# Altium schematic symbol library laihi.SchLib: 296 symbols (part 3 of 3)
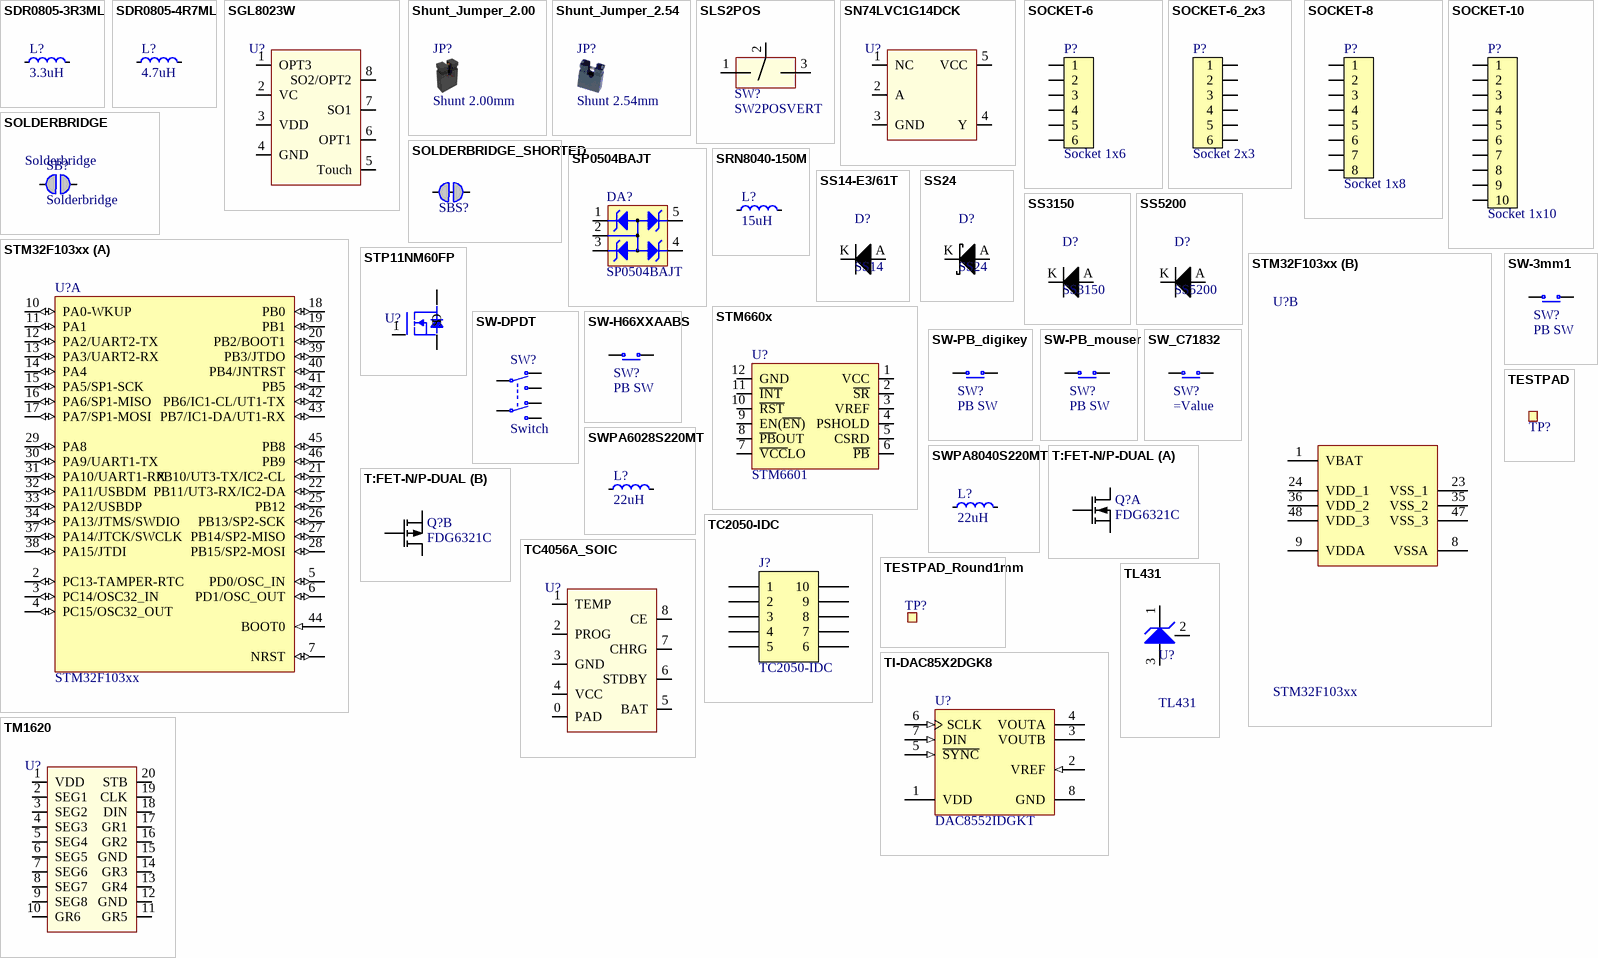
[diagram p9: symbols SDR0805-3R3ML to TM1620]

## T:FET-N/P-DUAL
designator Q?, comment FDG6321C
Fairchild, FDG6321C, Dual N & P Channel Digital FET; Artikkelnr Noca: 35029089; Part Number: FDG6321C; Manufacturer: Fairchild; Manufacturer No: FDG6321C; Datasheet: http://www.fairchildsemi.com/ds/FD/FDG6321C.pdf; Footprint: SC70-6; Pin Count: 6; Publisher: Nordic Semiconductor; Note: Dual N & P Channel Digital FET; Value: FDG6321C; Supplier_PN: FDG6321CDKR-ND
footprint SC70-6
part A pins: 1 S1, 2 G1, 6 D1
part B pins: 3 D2, 4 S2, 5 G2

## TC2050-IDC
designator J?  (no BOM)
CBL PLUG-OF-NAILS 10-PIN; Part Number: TC2050-IDC-NLFP; Manufacturer: Tag-Connect LLC; Artikkelnr Noca: N.A.; Manufacturer Part Number: TC2050-IDC-NLFP; Datasheet: http://www.tag-connect.com/Materials/TC2050-IDC%20Datasheet.pdf; LatestRevisionDate: 2012-11-21; Publisher: Nordic Semiconductor; Published: 2012-11-21; Value: TC2050-IDC; Supplier: Digi-Key; Supplier part number: TC2050-IDC-NL-ND; 2nd source Supplier: *; 2nd source part number: *; Pin Count: 10; Footprint Doc: TC2050-IDC-NLFP; Artikkelnr Simpro: N.A.
footprint TC2050-IDC-NLFP
pins: 1, 2, 3, 4, 5, 6, 7, 8, 9, 10

## TC4056A_SOIC
designator U?, comment TC4056A  (value not drawn)
1A 线性锂离子电池充电器; Manufacturer: FM; Manufacturer No: TC4056A; Note: TC4056A; Pins: 9; Supplier: LC; Supplier_PN: C84051; SuppliersPartNumber: C84051
footprint SOIC127P600X175_HS-9N (SOIC, 8-Leads, Body 4.90x3.90mm, Pitch 1.27mm, Thermal Pad 3.40x2.51mm, IPC Medium Density)
pins: 0 PAD, 1 TEMP, 2 PROG, 3 GND, 4 VCC, 5 BAT, 6 STDBY, 7 CHRG, 8 CE

## TESTPAD
designator TP?, comment TestPad  (value not drawn)  (no BOM)
Regular Plated, 1.0mm hole; Part Number: TP_SMD_1.0MM; Manufacturer: Nordic Semiconductor; Artikkelnr Noca: N.A.; Manufacturer Part Number: *; Datasheet: *; Footprint: TP_SMD_1.0mmX1.0mm; LatestRevisionDate: 2009-12-12; Pin Count: 1; Publisher: Nordic Semiconductor; Published: 2009-12-12; Note: Regular Plated, 1.0mm hole; Supplier: *; Supplier part number: *; 2nd source Supplier: *; 2nd source part number: *; Value: TestPad
footprint TP_SMD_1.0mmX1.0mm
pins: 1

## TESTPAD_Round1mm
designator TP?, comment Ø1.0mm,SMD  (value not drawn)  (no BOM)
1.0mm circular SMD testpad; Part Number: TP_SMD_Ø1.0MM; Manufacturer: Nordic Semiconductor; Artikkelnr Noca: N.A.; Manufacturer Part Number: *; Datasheet: *; LatestRevisionDate: 2013-06-11; Pin Count: 1; Publisher: Nordic Semiconductor; Published: 2013-06-11; Value: Ø1.0mm,SMD; Note: *; Supplier: *; Supplier part number: *; 2nd source Supplier: *; 2nd source part number: *; Footprint Doc: TP_SMD_Ø1.0mm; Artikkelnr Simpro: N.A.
footprint TP_SMD_D1.0mm
pins: 1

## TI-DAC85X2DGK8
designator U?, comment DAC8552IDGKT
16-Bit, Dual-Channel, Ultralow Glitch, Voltage Output, Digital to Analog Converter, -40 to 105 degC, 8-pin SOP (DGK8), Green (RoHS & no Sb/Br); Manufacturer: Texas Instruments; SubFamily: Precision DAC (=<10MSPS); Settling Time(us): 10; SNR(dB): 95; SFDR(dB): 87; DAC Channels: 2; Resolution(Bits): 16; DNL(Max)(+/-LSB): 1; Interface: Serial SPI; Eco-Plan: Green (RoHS & no Sb/Br); ComponentLink2URL: http://www.ti.com/general/docs/lit/getliterature.tsp?genericPartNumber=DAC8552&fileType=pdf; PackageDescription: 8-Pin Thin Small Outline, Body 3 x 3 mm, Pitch 0.65 mm; ComponentLink3URL: http://www.ti.com/litv/pdf/mpds028d; ComponentLink1URL: http://www.ti.com/; PackageVersion: 4073329/E, 05/2006; Code_JEDEC: MO-187; ComponentLink2Description: Datasheet; DatasheetVersion: SLAS430A; PackageReference: DGK8; ComponentLink3Description: Package Specification; ComponentLink1Description: Manufacturer URL; Mounting Technology: Surface Mount; PartNumber: DAC8552IDGKT
footprint TI-DGK8_M (SOP, 8-Leads, Body 3x3mm, Pitch 0.65mm, IPC Low Density)
footprint TI-DGK8_N (SOP, 8-Leads, Body 3x3mm, Pitch 0.65mm, IPC Medium Density)
footprint TI-DGK8_L (SOP, 8-Leads, Body 3x3mm, Pitch 0.65mm, IPC High Density)
pins: 1 VDD (power) "Power supply input, +2.7V to +5.5V.", 2 VREF (in) "Reference voltage input.", 3 VOUTB (hiz) "Analog output voltage from DAC B.", 4 VOUTA (hiz) "Analog output voltage from DAC A.", 5 ~{SYNC} (in) "Level triggered S\Y\N\C\ input (active LOW). This is the frame synchronization signal for the input data. When S\Y\N\C\ goes LOW, it enables the input shift register and data is transferred on the falling edge of SCLK. The (See Datasheet)", 6 SCLK (in) "Serial Clock Input. Data can be transferred at rates up to 30 MHz at 5V.", 7 DIN (in) "Serial Data Input. Data is clocked into the 24-bit input shift register on each falling edge of the serial clock input.", 8 GND (power) "Ground reference point for all circuitry on the part."

## TL431
designator U?
TL43xx Precision Programmable Reference; Manufacturer: TI; Supplier: LC; SuppliersPartNumber: C79294; Manufacturer Part Number: TL431
footprint SOT23-3 (STX)
pins: 1 K, 2 REF, 3 A

## TM1620
designator U?  (value not drawn)
TM1620 LED（发光二极管显示器）驱动控制专用电路; Manufacturer: titanmicro; Manufacturer No: TM1620; Pins: 20; Supplier: LC; Supplier_PN: C19579
footprint SOP127P1050X275-20N (SOP, 20-Leads, Body 12.70x7.65mm, Pitch 1.27mm, IPC Medium Density)
pins: 1 VDD, 2 SEG1, 3 SEG2, 4 SEG3, 5 SEG4, 6 SEG5, 7 SEG6, 8 SEG7, 9 SEG8, 10 GR6, 11 GR5, 12 GND, 13 GR4, 14 GR3, 15 GND, 16 GR2, 17 GR1, 18 DIN, 19 CLK, 20 STB

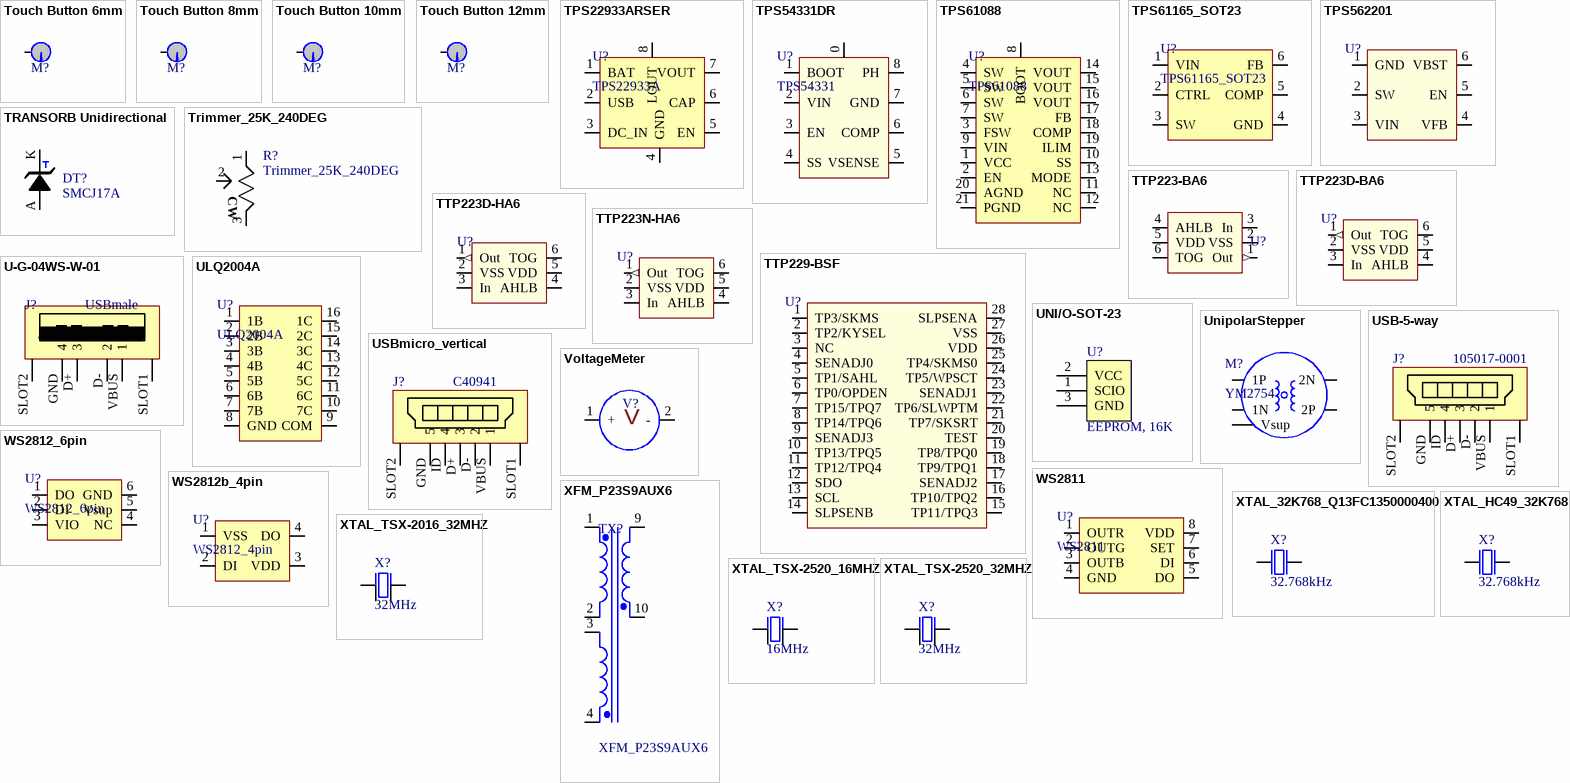
[diagram p7: symbols Touch Button 6mm to XTAL_TSX-2520_32MHZ]

## Touch Button 6mm
designator M?, comment TBtn  (value not drawn)  (net tie, no BOM)
Touch Button; Part Number: Touch Button; Manufacturer: N/A; Manufacturer No: N/A; Pin Count: 1; Value: TBtn; Supplier: PCB; Supplier_PN: N/A
footprint TouchBtn6mm (Touch button 6mm diameter)
pins: 1

## Touch Button 8mm
designator M?, comment TBtn  (value not drawn)  (net tie, no BOM)
Touch Button; Part Number: Touch Button; Manufacturer: N/A; Manufacturer No: N/A; Pin Count: 1; Value: TBtn; Supplier: PCB; Supplier_PN: N/A
footprint TouchBtn8mm (Touch button 8mm diameter)
pins: 1

## Touch Button 10mm
designator M?, comment TBtn  (value not drawn)  (net tie, no BOM)
Touch Button; Part Number: Touch Button; Manufacturer: N/A; Manufacturer No: N/A; Pin Count: 1; Value: TBtn; Supplier: PCB; Supplier_PN: N/A
footprint TouchBtn10mm (Touch button 10mm diameter)
pins: 1

## Touch Button 12mm
designator M?, comment TBtn  (value not drawn)  (net tie, no BOM)
Touch Button; Part Number: Touch Button; Manufacturer: N/A; Manufacturer No: N/A; Pin Count: 1; Value: TBtn; Supplier: PCB; Supplier_PN: N/A
footprint TouchBtn12mm (Touch button 12mm diameter)
pins: 1

## TPS22933ARSER
designator U?, comment TPS22933A
3 triple power mux, 12V, 0.075A, 3.5mΩ, 3-Channel Load Switch with Quick Output Discharge; Manufacturer: TI; Manufacturer No: TPS22933ARSER; Supplier: Digi-Key; Supplier_PN: 296-34979-2-ND; Pins: 8; Note: 12V, 0.075A, 3.5mΩ, 3-Channel Load Switch with Quick Output Discharge
footprint UQFN50P150X150X60-8N (QFN, 8-Leads, Body 1.50x1.50mm, Pitch 0.50mm, IPC Medium Density)
pins: 1 BAT, 2 USB, 3 DC_IN, 4 GND, 5 EN, 6 CAP, 7 VOUT, 8 LOUT

## TPS54331DR
designator U?, comment TPS54331
3.5V to 28V Input, 3A, 570kHz Step-Down Converter with Eco-mode; Manufacturer: TI; Manufacturer No: TPS54331DR; Note: 3.5V to 28V Input, 3A, 570kHz Step-Down Converter with Eco-mode; Pins: 8; Supplier: LC; Supplier_PN: C9865; SuppliersPartNumber: C9865
footprint SOIC127P600X175_HS-9N (SOIC, 8-Leads, Body 4.90x3.90mm, Pitch 1.27mm, Thermal Pad 3.40x2.51mm, IPC Medium Density)
pins: 0 GNDPAD, 1 BOOT, 2 VIN, 3 EN, 4 SS, 5 VSENSE, 6 COMP, 7 GND, 8 PH

## TPS61088
designator U?
IC REG BOOST ADJ 10A SYNC 20VQFN
footprint TI VQFN 20-pin (PQFN, 20-Leads, Body 3.50x4.50mm, Pitch 0.50mm, Thermal Pad 2.05x3.05mm, IPC Medium Density)
pins: 1 VCC, 2 EN, 3 FSW, 4 SW, 5 SW, 6 SW, 7 SW, 8 BOOT, 9 VIN, 10 SS, 11 NC, 12 NC, 13 MODE, 14 VOUT, 15 VOUT, 16 VOUT, 17 FB, 18 COMP, 19 ILIM, 20 AGND, 21 PGND

## TPS61165_SOT23
designator U?
IC TPS61165 High-Brightness 3-V to 18-V Input 1.2-A Switch FET With 1.2-MHz Switching; Manufacturer: TI; Manufacturer No: TPS61165DBVR; Note: 18V supply max, 1.2A, 1.2MHz; Supplier: Digi-Key; Supplier_PN: 296-27597-1-ND; Pins: 6
footprint TPS61165_SOT95P (SOT23, 6-Leads, Body 2.90x2.80mm, Pitch 0.95mm, IPC Medium Density)
pins: 1 VIN, 2 CTRL, 3 SW, 4 GND, 5 COMP, 6 FB

## TPS562201
designator U?  (value not drawn)
4.5V to 17V Input, 2A Output, Synchronous Step-Down Converter; Manufacturer: TI; Manufacturer No: TPS562201DDCR; Note: 4.5V to 17V Input, 2A Output, Synchronous Step-Down Converter; Pins: 6; Supplier: LC; Supplier_PN: C90061; SuppliersPartNumber: C90061
footprint SOT23-6 (TSOP, 6-Leads, Body 2.90x1.60mm, Pitch 0.95mm, IPC Medium Density)
pins: 1 GND, 2 SW, 3 VIN, 4 VFB, 5 EN, 6 VBST

## TRANSORB Unidirectional
designator DT?, comment SMCJ17A
ESD 17V TRANSORB Unidirectional SMCJ17A SMD; Manufacturer: Fairchild; Rating: IND; Qualified: False; Part Number: SMCJ17A; Manufacturer No: SMCJ17A; Supplier: Soanar; PartType: SM; Verified: False; Obsolete: False; ROHS: True; Pin Count: 2; Supplier_PN: SMCJ17ABCT-ND
footprint SMC-DIODE
pins: A, K

## Trimmer_25K_240DEG
designator R?
TRIMMER 25K OHM 0.25W SMT; Manufacturer: Bourns Inc.; Manufacturer No: 3314J-1-253E; Part Number: Trimmer_25K_240DEG; Supplier: Digikey; Supplier_PN: 3314J-253ECT-ND; Verified: False; Pin Count: 3; Value: 25K; MaxRating: 0.25W
footprint POT-3314J-1 (BOURNS SMT POT 3-Leads, Body 4.50x5.10mm, Pitch 1.15mm, IPC Medium Density)
pins: 1, 2, 3
text: CW

## TTP223-BA6
designator U?  (value not drawn)
普通无时限单键触摸; Manufacturer: TonTek; Manufacturer No: TTP223-BA6; Pins: 6; Supplier: LC; Supplier_PN: C80757
footprint SOT23-6 (TSOP, 6-Leads, Body 2.90x1.60mm, Pitch 0.95mm, IPC Medium Density)
pins: 1 Out (out), 2 VSS, 3 In, 4 AHLB, 5 VDD, 6 TOG

## TTP223D-BA6
designator U?  (value not drawn)
无时限单键触摸; Manufacturer: TonTek; Manufacturer No: TTP223D-BA6; Pins: 6; Supplier: LC; Supplier_PN: C82384
footprint SOT23-6 (TSOP, 6-Leads, Body 2.90x1.60mm, Pitch 0.95mm, IPC Medium Density)
pins: 1 Out (out), 2 VSS, 3 In, 4 AHLB, 5 VDD, 6 TOG

## TTP223D-HA6
designator U?  (value not drawn)
16秒单键触摸; Manufacturer: TonTek; Manufacturer No: TTP223D-HA6; Pins: 6; Supplier: LC; Supplier_PN: C80803
footprint SOT23-6 (TSOP, 6-Leads, Body 2.90x1.60mm, Pitch 0.95mm, IPC Medium Density)
pins: 1 Out (out), 2 VSS, 3 In, 4 AHLB, 5 VDD, 6 TOG

## TTP223N-HA6
designator U?  (value not drawn)
高敏100秒单键触摸; Manufacturer: TonTek; Manufacturer No: TTP223N-HA6; Pins: 6; Supplier: LC; Supplier_PN: C93723
footprint SOT23-6 (TSOP, 6-Leads, Body 2.90x1.60mm, Pitch 0.95mm, IPC Medium Density)
pins: 1 Out (out), 2 VSS, 3 In, 4 AHLB, 5 VDD, 6 TOG

## TTP229-BSF
designator U?  (value not drawn)
16键 32Hz扫描速率 触摸键; Manufacturer: TonTek; Manufacturer No: TTP229-BSF; Pins: 28; Supplier: LC; Supplier_PN: C82529
footprint SOP64P600X175-28N (SOP, 28-Leads, Body 9.90x3.93mm, Pitch 0.64mm, IPC Medium Density)
pins: 1 TP3/SKMS, 2 TP2/KYSEL, 3 NC, 4 SENADJ0, 5 TP1/SAHL, 6 TP0/OPDEN, 7 TP15/TPQ7, 8 TP14/TPQ6, 9 SENADJ3, 10 TP13/TPQ5, 11 TP12/TPQ4, 12 SDO, 13 SCL, 14 SLPSENB, 15 TP11/TPQ3, 16 TP10/TPQ2, 17 SENADJ2, 18 TP9/TPQ1, 19 TP8/TPQ0, 20 TEST, 21 TP7/SKSRT, 22 TP6/SLWPTM, 23 SENADJ1, 24 TP5/WPSCT, 25 TP4/SKMS0, 26 VDD, 27 VSS, 28 SLPSENA

## U-G-04WS-W-01
designator J?, comment USBmale
U-G-04WS-W-01 高品质USB公头 袋装; Manufacturer: 韩国韩荣; Supplier: LC; SuppliersPartNumber: C97324; Verified: False; Pin Count: 4; Manufacturer No: U-G-04WS-W-01; PartType: SM
footprint USB2 male (USB 2 standard male connector)
3D model USB-uB_Bottom_Mount_RA_Molex_1050170001
pins: D+ 3, D- 2, GND 4, SLOT1, SLOT2, VBUS 1

## ULQ2004A
designator U?
TRANS 7NPN DARL 50V 0.5A 16SO; Supplier_PN: 296-34766-5-ND; Supplier: Digi-key
footprint SOIC-TI-D-16PIN (SOIC, 16-Leads, Body 9.90x3.90mm, Pitch 1.27mm, IPC Medium Density)
pins: 1 1B, 2 2B, 3 3B, 4 4B, 5 5B, 6 6B, 7 7B, 8 GND, 9 COM, 10 7C, 11 6C, 12 5C, 13 4C, 14 3C, 15 2C, 16 1C

## UNI/O-SOT-23
designator U?, comment EEPROM, 16K
MICROCHIP - 11AA160T-I/TT - IC, EEPROM, 16K, 1.8V, UNIO, SOT-23; Part Number: 11AA160T-I/TT; Manufacturer: Microchip; Manufacturer No: 11AA160T-I/TT; Datasheet: http://ww1.microchip.com/downloads/en/DeviceDoc/DS-22067D.pdf; Footprint: SOT-23; Pin Count: 3; Note: EEPROM, 16K, 1.8V, UNIO, SOT-23; Supplier: Digi-Key; Supplier_PN: 11AA160T-I/TTCT-ND; Value: EEPROM, 16K
footprint SOT-23a
pins: 1 SCIO "IO", 2 VCC, 3 GND (power)

## UnipolarStepper
designator M?, comment YM2754
pins: 1 1P, 2 1N, 3 2P, 4 2N, 5 Vsup

## USB-5-way
designator J?, comment 105017-0001
I/F CONN Micro-USB Type:B Bottom Mount 100Vac 1A0 Contact:0R05 Molex:1050170001 SMD; Part Number: 105017-0001 uUSB-B; Manufacturer: Molex; HRG_PN: 4761; Rating: IND; Audit_Details: CSB FEB 2010; Qualified: False; Notes: Bionic Eye; Supplier: Arrow; Supplier_PN: 105017-0001; ComponentLink1Description: Website; ComponentLink1URL: #http://www.molex.com/pdm_docs/sd/1050170001_sd.pdf#; ComponentLink2Description: Approvals; Verified: False; Obsolete: False; ROHS: True; Critical: False; Pin Count: 6; Component Kind: Standard; Component Type: Standard; Manufacturer No: 105017-0001; PartType: SM
footprint 105017-0001 (Micro USB Type-B Bottom-Mount)
3D model USB-uB_Bottom_Mount_RA_Molex_1050170001
pins: D+ 3, D- 2, GND 5, ID 4, SLOT1, SLOT2, VBUS 1

## USBmicro_vertical
designator J?, comment C40941
I/F CONN Micro-USB Type:B Bottom Mount 100Vac 1A0 Contact:0R05 Molex:1050170001 SMD; Manufacturer: LC; Manufacturer No: GLF-micro-0330; Part Number: C40941; Supplier: LC; Supplier_PN: C40941; Pin Count: 5; PartType: THRU
footprint microUSB vertical thru (Micro USB Type-B thru vertical)
pins: D+ 3, D- 2, GND 5, ID 4, SLOT1, SLOT2, VBUS 1

## VoltageMeter
designator V?  (value not drawn)
Voltage meter; Note: *
pins: 1 +, 2 -
text: V

## WS2811
designator U?
Signal line 256 Gray level, 3 channal, Constant current LED drive IC; Pin Count: 8
footprint ws2811ic (LED driver IC only, SOP8-Leads, Body 4.90x3.90mm, Pitch 1.27mm, IPC Medium Density)
pins: 1 OUTR, 2 OUTG, 3 OUTB, 4 GND, 5 DO, 6 DI, 7 SET, 8 VDD

## WS2812_6pin
designator U?
5V Integrated 256 Gray level, 3 channal, Constant current LED drive IC; Pin Count: 6
footprint WS2812_6pin (Integrated 5050 LED RGB 256 levels with IC, SON, 6-Leads, Body 5.00x5.00mm, Pitch 1.60mm, IPC Medium Density)
pins: 1 DO, 2 DI, 3 VIO, 4 NC, 5 Vsup, 6 GND

## WS2812b_4pin
designator U?, comment WS2812_4pin
Integrated 256 Gray level, 3 channal, Constant current LED drive IC; Pin Count: 4
footprint WS2812_4pin (Integrated 5050 LED RGB 256 levels with IC, SON, 4-Leads, Body 5.00x5.00mm, Pitch 1.60mm, IPC Medium Density)
pins: 1 VSS, 2 DI, 3 VDD, 4 DO

## XFM_P23S9AUX6
designator TX?
高频变压线圈 transformer; Sim Note: Enter the turns ratios, Core loss resistance, Magnetising Reactance, Leakage Reactances and Resistances referred to the primary side into the parameter fields.; Published: 25-Jan-2001; LatestRevisionDate: 17-Jul-2002; LatestRevisionNote: Re-released for DXP Platform.; PackageReference: TRF_6; Publisher: Altium Limited; PackageDescription: Transformer; 6 Leads; Supplier: 余姚市森淼电子厂; SuppliersPartNumber: P23S9AUX6
footprint PQ26/20 (Transformer 6-6 pins)
pins: 1 Pri+, 2 Pri-, 3 Aux-, 4 Aux+, 9 Sec-, 10 Sec+

## XTAL_32K768_Q13FC1350000400
designator X?, comment 32.768kHz
32.768KHz +/-20ppm SMD-3215; Part Number: XTAL_FC-135 32.768k; Manufacturer: Epson Toyocom; Manufacturer No: Q13FC1350000400; Note: XTAL SMD 32.768kHz, 3215; Footprint: FC-135; Pin Count: 2; Supplier: LC; Value: 32.768kHz; Supplier_PN: C32346
footprint FC-135
pins: 1 inp, 2 out

## XTAL_HC49_32K768
designator X?, comment 32.768kHz
EPSON TOYOCOM - FC-135 32.768KHZ ?0PPM,9.0PF - CRYSTAL, SM, WATCH; Part Number: XTAL_FC-135 32.768k; Note: XTAL SMD 32.768kHz, 3215; Manufacturer: Epson Toyocom; Manufacturer No: FC-135 32.768KHZ ?0PPM,9.0PF; Datasheet: http://www.farnell.com/datasheets/57480.pdf; Footprint: FC-135; Pin Count: 2; Supplier: Digi-Key; Value: 32.768kHz; Supplier_PN: 535-9542-1-ND
footprint FC-135
pins: 1 inp, 2 out

## XTAL_TSX-2016_32MHZ
designator X?, comment 32MHz
XTAL SMD 2016, 32MHz; Part Number: 7F32000E12UCG; Manufacturer: SJK; Note: XTAL SMD 32.000MHz; Manufacturer No: 7F32000E12UCG; Footprint: XTAL_2016; Pin Count: 4; Supplier: LC; Supplier_PN: C252277; Value: 32MHz
footprint XTAL_2016
pins: 1 inp, 2 GND, 3 out, 4 GND

## XTAL_TSX-2520_16MHZ
designator X?, comment 16MHz
XTAL SMD 2520, 16MHz, 8pF, 5ppm; Part Number: NX2520SA-16MHZ-STD-CSW-5; Manufacturer: NDK; Note: XTAL SMD 16.000MHz; Manufacturer No: NX2520SA-16MHZ-STD-CSW-5; Footprint: BT-XTAL_2520; Pin Count: 4; Supplier: Digi-Key; Supplier_PN: 644-1169-1-ND; Value: 16MHz
footprint BT-XTAL_2520
pins: 1 inp, 2 GND, 3 out, 4 GND

## XTAL_TSX-2520_32MHZ
designator X?, comment 32MHz
XTAL SMD 2520, 32MHz; Part Number: 7V32000035-EEE4G; Manufacturer: TXC; Note: XTAL SMD 32.000MHz; Manufacturer No: 7V32000035-EEE4G; Footprint: XTAL_3225; Pin Count: 4; Supplier: LC; Supplier_PN: C90934; Value: 32MHz
footprint XTAL_3225
pins: 1 inp, 2 GND, 3 out, 4 GND